# Altium footprint library QFPxx.PcbLib: 5 footprints (part 1 of 3)
Each footprint in its own frame and in the unit in brackets; x right, y up, seen from the top. Pads: shape width x height; smd on the part's side, far side on the other; paste and mask are expansions set on the pad; w line width, h text height; cw(c..) or ccw(c..) is an arc to the next point about the centre after c.
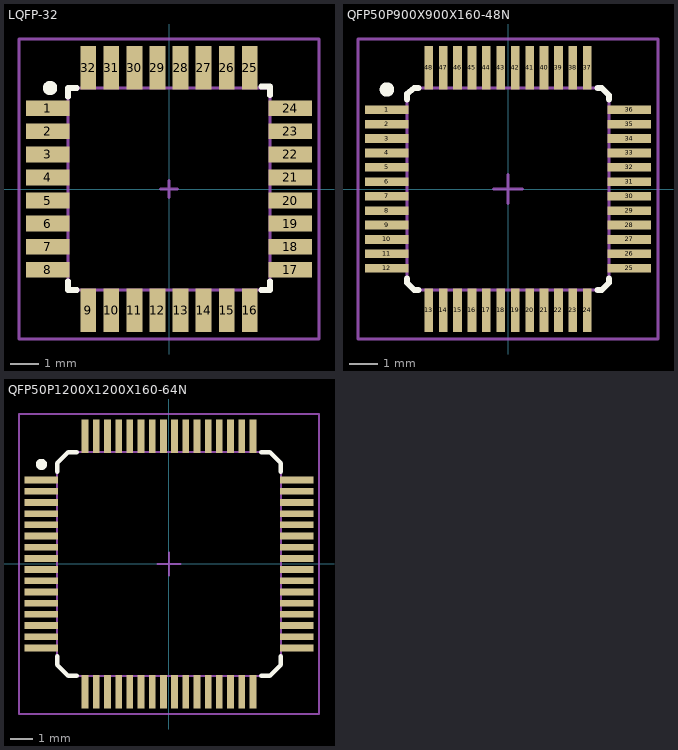
[diagram p0: the footprints below, top view; thin cyan lines are the x and y axes]

## LQFP-32 [mm] "Body 7x7mm, Pitch 0.80mm"
height 1.6
pads (32):
  rect 1.5x0.55 smd: 1(-4.2,2.8) 2(-4.2,2) 3(-4.2,1.2) 4(-4.2,0.4) 5(-4.2,-0.4) 6(-4.2,-1.2) 7(-4.2,-2) 8(-4.2,-2.8) 17(4.2,-2.8) 18(4.2,-2) 19(4.2,-1.2) 20(4.2,-0.4) 21(4.2,0.4) 22(4.2,1.2) 23(4.2,2) 24(4.2,2.8)
  rect 0.55x1.5 smd: 9(-2.8,-4.2) 10(-2,-4.2) 11(-1.2,-4.2) 12(-0.4,-4.2) 13(0.4,-4.2) 14(1.2,-4.2) 15(2,-4.2) 16(2.8,-4.2) 25(2.8,4.2) 26(2,4.2) 27(1.2,4.2) 28(0.4,4.2) 29(-0.4,4.2) 30(-1.2,4.2) 31(-2,4.2) 32(-2.8,4.2)
Top Overlay:
  circle w0.25: c-4.125,3.5 r0.125
  lines w0.2: -3.5,-3.2 -3.5,-3.5 -3.2,-3.5 ; -3.5,3.2 -3.5,3.5 -3.2,3.5 ; 3.2,-3.5 3.5,-3.5 3.5,-3.2 ; 3.2,3.55 3.5,3.55 3.5,3.25
Mechanical 13:
  lines w0.1: -3.5,-3.5 -3.5,3.5 3.5,3.5 3.5,-3.5 -3.5,-3.5
Mechanical 15:
  lines w0.1: -0.3,0 0.3,0 ; 0,-0.3 0,0.3 ; -5.2,-5.2 5.2,-5.2 5.2,5.2 -5.2,5.2 -5.2,-5.2
3D body: height 1.61, standoff 1.6, extent -3.099,2.5 -2.501,3.099
3D body: height 0.2, standoff 0, extent -4.5,0.2 -3.8,0.6
3D body: height 1.6, standoff 0.1, extent -3.5,-3.5 3.5,3.5
3D body: height 0.9, standoff 0.7, extent -3.8,0.2 -3.5,0.6
3D body: height 0.9, standoff 0, extent -3.8,0.2 -3.7,0.6
3D body: height 0.9, standoff 0, extent -3.8,1 -3.7,1.4
3D body: height 0.9, standoff 0.7, extent -3.8,1 -3.5,1.4
3D body: height 0.2, standoff 0, extent -4.5,1 -3.8,1.4
3D body: height 0.9, standoff 0, extent -3.8,1.8 -3.7,2.2
3D body: height 0.9, standoff 0.7, extent -3.8,1.8 -3.5,2.2
3D body: height 0.2, standoff 0, extent -4.5,1.8 -3.8,2.2
3D body: height 0.9, standoff 0, extent -3.8,2.6 -3.7,3
3D body: height 0.9, standoff 0.7, extent -3.8,2.6 -3.5,3
3D body: height 0.2, standoff 0, extent -4.5,2.6 -3.8,3
3D body: height 0.9, standoff 0, extent -3.8,-0.6 -3.7,-0.2
3D body: height 0.9, standoff 0.7, extent -3.8,-0.6 -3.5,-0.2
3D body: height 0.2, standoff 0, extent -4.5,-0.6 -3.8,-0.2
3D body: height 0.9, standoff 0, extent -3.8,-1.4 -3.7,-1
3D body: height 0.9, standoff 0.7, extent -3.8,-1.4 -3.5,-1
3D body: height 0.2, standoff 0, extent -4.5,-1.4 -3.8,-1
3D body: height 0.9, standoff 0, extent -3.8,-2.2 -3.7,-1.8
3D body: height 0.9, standoff 0.7, extent -3.8,-2.2 -3.5,-1.8
3D body: height 0.2, standoff 0, extent -4.5,-2.2 -3.8,-1.8
3D body: height 0.9, standoff 0, extent -3.8,-3 -3.7,-2.6
3D body: height 0.9, standoff 0.7, extent -3.8,-3 -3.5,-2.6
3D body: height 0.2, standoff 0, extent -4.5,-3 -3.8,-2.6
3D body: height 0.2, standoff 0, extent 2.6,-4.5 3,-3.8
3D body: height 0.9, standoff 0.7, extent 2.6,-3.8 3,-3.5
3D body: height 0.9, standoff 0, extent 2.6,-3.8 3,-3.7
3D body: height 0.2, standoff 0, extent 1.8,-4.5 2.2,-3.8
3D body: height 0.9, standoff 0.7, extent 1.8,-3.8 2.2,-3.5
3D body: height 0.9, standoff 0, extent 1.8,-3.8 2.2,-3.7
3D body: height 0.2, standoff 0, extent 1,-4.5 1.4,-3.8
3D body: height 0.9, standoff 0.7, extent 1,-3.8 1.4,-3.5
3D body: height 0.9, standoff 0, extent 1,-3.8 1.4,-3.7
3D body: height 0.2, standoff 0, extent 0.2,-4.5 0.6,-3.8
3D body: height 0.9, standoff 0.7, extent 0.2,-3.8 0.6,-3.5
3D body: height 0.9, standoff 0, extent 0.2,-3.8 0.6,-3.7
3D body: height 0.2, standoff 0, extent -3,-4.5 -2.6,-3.8
3D body: height 0.9, standoff 0.7, extent -3,-3.8 -2.6,-3.5
3D body: height 0.9, standoff 0, extent -3,-3.8 -2.6,-3.7
3D body: height 0.2, standoff 0, extent -2.2,-4.5 -1.8,-3.8
3D body: height 0.9, standoff 0.7, extent -2.2,-3.8 -1.8,-3.5
3D body: height 0.9, standoff 0, extent -2.2,-3.8 -1.8,-3.7
3D body: height 0.2, standoff 0, extent -1.4,-4.5 -1,-3.8
3D body: height 0.9, standoff 0.7, extent -1.4,-3.8 -1,-3.5
3D body: height 0.9, standoff 0, extent -1.4,-3.8 -1,-3.7
3D body: height 0.9, standoff 0, extent -0.6,-3.8 -0.2,-3.7
3D body: height 0.9, standoff 0.7, extent -0.6,-3.8 -0.2,-3.5
3D body: height 0.2, standoff 0, extent -0.6,-4.5 -0.2,-3.8
3D body: height 0.2, standoff 0, extent 3.8,2.6 4.5,3
3D body: height 0.9, standoff 0.7, extent 3.5,2.6 3.8,3
3D body: height 0.9, standoff 0, extent 3.7,2.6 3.8,3
3D body: height 0.2, standoff 0, extent 3.8,1.8 4.5,2.2
3D body: height 0.9, standoff 0.7, extent 3.5,1.8 3.8,2.2
3D body: height 0.9, standoff 0, extent 3.7,1.8 3.8,2.2
3D body: height 0.2, standoff 0, extent 3.8,1 4.5,1.4
3D body: height 0.9, standoff 0.7, extent 3.5,1 3.8,1.4
3D body: height 0.9, standoff 0, extent 3.7,1 3.8,1.4
3D body: height 0.2, standoff 0, extent 3.8,0.2 4.5,0.6
3D body: height 0.9, standoff 0.7, extent 3.5,0.2 3.8,0.6
3D body: height 0.9, standoff 0, extent 3.7,0.2 3.8,0.6
3D body: height 0.2, standoff 0, extent 3.8,-3 4.5,-2.6
3D body: height 0.9, standoff 0.7, extent 3.5,-3 3.8,-2.6
3D body: height 0.9, standoff 0, extent 3.7,-3 3.8,-2.6
3D body: height 0.2, standoff 0, extent 3.8,-2.2 4.5,-1.8
3D body: height 0.9, standoff 0.7, extent 3.5,-2.2 3.8,-1.8
3D body: height 0.9, standoff 0, extent 3.7,-2.2 3.8,-1.8
3D body: height 0.2, standoff 0, extent 3.8,-1.4 4.5,-1
3D body: height 0.9, standoff 0.7, extent 3.5,-1.4 3.8,-1
3D body: height 0.9, standoff 0, extent 3.7,-1.4 3.8,-1
3D body: height 0.9, standoff 0, extent 3.7,-0.6 3.8,-0.2
3D body: height 0.9, standoff 0.7, extent 3.5,-0.6 3.8,-0.2
3D body: height 0.2, standoff 0, extent 3.8,-0.6 4.5,-0.2
3D body: height 0.2, standoff 0, extent -3,3.8 -2.6,4.5
3D body: height 0.9, standoff 0.7, extent -3,3.5 -2.6,3.8
3D body: height 0.9, standoff 0, extent -3,3.7 -2.6,3.8
3D body: height 0.2, standoff 0, extent -2.2,3.8 -1.8,4.5
3D body: height 0.9, standoff 0.7, extent -2.2,3.5 -1.8,3.8
3D body: height 0.9, standoff 0, extent -2.2,3.7 -1.8,3.8
3D body: height 0.2, standoff 0, extent -1.4,3.8 -1,4.5
3D body: height 0.9, standoff 0.7, extent -1.4,3.5 -1,3.8
3D body: height 0.9, standoff 0, extent -1.4,3.7 -1,3.8
3D body: height 0.2, standoff 0, extent -0.6,3.8 -0.2,4.5
3D body: height 0.9, standoff 0.7, extent -0.6,3.5 -0.2,3.8
3D body: height 0.9, standoff 0, extent -0.6,3.7 -0.2,3.8
3D body: height 0.2, standoff 0, extent 2.6,3.8 3,4.5
3D body: height 0.9, standoff 0.7, extent 2.6,3.5 3,3.8
3D body: height 0.9, standoff 0, extent 2.6,3.7 3,3.8
3D body: height 0.2, standoff 0, extent 1.8,3.8 2.2,4.5
3D body: height 0.9, standoff 0.7, extent 1.8,3.5 2.2,3.8
3D body: height 0.9, standoff 0, extent 1.8,3.7 2.2,3.8
3D body: height 0.2, standoff 0, extent 1,3.8 1.4,4.5
3D body: height 0.9, standoff 0.7, extent 1,3.5 1.4,3.8
3D body: height 0.9, standoff 0, extent 1,3.7 1.4,3.8
3D body: height 0.9, standoff 0, extent 0.2,3.7 0.6,3.8
3D body: height 0.9, standoff 0.7, extent 0.2,3.5 0.6,3.8
3D body: height 0.2, standoff 0, extent 0.2,3.8 0.6,4.5

## QFP50P900X900X160-48N [mm] "LQFP, 48-Leads, Body 7x7mm, Pitch 0.50mm"
height 1.6
pads (48):
  rect 1.5x0.3 smd: 1(-4.2,2.75) 2(-4.2,2.25) 3(-4.2,1.75) 4(-4.2,1.25) 5(-4.2,0.75) 6(-4.2,0.25) 7(-4.2,-0.25) 8(-4.2,-0.75) 9(-4.2,-1.25) 10(-4.2,-1.75) 11(-4.2,-2.25) 12(-4.2,-2.75) 25(4.2,-2.75) 26(4.2,-2.25) 27(4.2,-1.75) 28(4.2,-1.25) 29(4.2,-0.75) 30(4.2,-0.25) 31(4.2,0.25) 32(4.2,0.75) 33(4.2,1.25) 34(4.2,1.75) 35(4.2,2.25) 36(4.2,2.75)
  rect 0.3x1.5 smd: 13(-2.75,-4.2) 14(-2.25,-4.2) 15(-1.75,-4.2) 16(-1.25,-4.2) 17(-0.75,-4.2) 18(-0.25,-4.2) 19(0.25,-4.2) 20(0.75,-4.2) 21(1.25,-4.2) 22(1.75,-4.2) 23(2.25,-4.2) 24(2.75,-4.2) 37(2.75,4.2) 38(2.25,4.2) 39(1.75,4.2) 40(1.25,4.2) 41(0.75,4.2) 42(0.25,4.2) 43(-0.25,4.2) 44(-0.75,4.2) 45(-1.25,4.2) 46(-1.75,4.2) 47(-2.25,4.2) 48(-2.75,4.2)
Top Overlay:
  circle w0.25: c-4.2,3.45 r0.125
  lines w0.2: -3.5,-3.1 -3.5,-3.25 -3.25,-3.5 -3.1,-3.5 ; -3.5,3.1 -3.5,3.3 -3.25,3.5 -3.1,3.5 ; 3.1,-3.5 3.25,-3.5 3.5,-3.25 3.5,-3.1 ; 3.1,3.5 3.25,3.5 3.5,3.25 3.5,3.1
Mechanical 13:
  lines w0.1: -3.5,-3.25 -3.25,-3.5 3.25,-3.5 3.5,-3.25 3.5,3.25 3.25,3.5 -3.25,3.5 -3.5,3.25 -3.5,-3.25
Mechanical 15:
  lines w0.1: -0.5,0 0.5,0 ; 0,-0.5 0,0.5 ; -5.2,-5.2 5.2,-5.2 5.2,5.2 -5.2,5.2 -5.2,-5.2
3D body: height 0.9, standoff 0, extent -3.8,2.625 -3.7,2.875
3D body: height 0.9, standoff 0.7, extent -3.8,2.625 -3.5,2.875
3D body: height 0.2, standoff 0, extent -4.5,2.625 -3.8,2.875
3D body: height 1.61, standoff 1.6, extent -2.897,2.301 -2.3,2.9
3D body: height 1.6, standoff 0.05, extent -3.5,-3.5 3.5,3.5
3D body: height 0.2, standoff 0, extent -4.5,2.125 -3.8,2.375
3D body: height 0.9, standoff 0.7, extent -3.8,2.125 -3.5,2.375
3D body: height 0.9, standoff 0, extent -3.8,2.125 -3.7,2.375
3D body: height 0.2, standoff 0, extent -4.5,1.625 -3.8,1.875
3D body: height 0.9, standoff 0.7, extent -3.8,1.625 -3.5,1.875
3D body: height 0.9, standoff 0, extent -3.8,1.625 -3.7,1.875
3D body: height 0.2, standoff 0, extent -4.5,1.125 -3.8,1.375
3D body: height 0.9, standoff 0.7, extent -3.8,1.125 -3.5,1.375
3D body: height 0.9, standoff 0, extent -3.8,1.125 -3.7,1.375
3D body: height 0.2, standoff 0, extent -4.5,0.625 -3.8,0.875
3D body: height 0.9, standoff 0.7, extent -3.8,0.625 -3.5,0.875
3D body: height 0.9, standoff 0, extent -3.8,0.625 -3.7,0.875
3D body: height 0.2, standoff 0, extent -4.5,0.125 -3.8,0.375
3D body: height 0.9, standoff 0.7, extent -3.8,0.125 -3.5,0.375
3D body: height 0.9, standoff 0, extent -3.8,0.125 -3.7,0.375
3D body: height 0.2, standoff 0, extent -4.5,-0.375 -3.8,-0.125
3D body: height 0.9, standoff 0.7, extent -3.8,-0.375 -3.5,-0.125
3D body: height 0.9, standoff 0, extent -3.8,-0.375 -3.7,-0.125
3D body: height 0.2, standoff 0, extent -4.5,-0.875 -3.8,-0.625
3D body: height 0.9, standoff 0.7, extent -3.8,-0.875 -3.5,-0.625
3D body: height 0.9, standoff 0, extent -3.8,-0.875 -3.7,-0.625
3D body: height 0.2, standoff 0, extent -4.5,-1.375 -3.8,-1.125
3D body: height 0.9, standoff 0.7, extent -3.8,-1.375 -3.5,-1.125
3D body: height 0.9, standoff 0, extent -3.8,-1.375 -3.7,-1.125
3D body: height 0.2, standoff 0, extent -4.5,-1.875 -3.8,-1.625
3D body: height 0.9, standoff 0.7, extent -3.8,-1.875 -3.5,-1.625
3D body: height 0.9, standoff 0, extent -3.8,-1.875 -3.7,-1.625
3D body: height 0.2, standoff 0, extent -4.5,-2.375 -3.8,-2.125
3D body: height 0.9, standoff 0.7, extent -3.8,-2.375 -3.5,-2.125
3D body: height 0.9, standoff 0, extent -3.8,-2.375 -3.7,-2.125
3D body: height 0.2, standoff 0, extent -4.5,-2.875 -3.8,-2.625
3D body: height 0.9, standoff 0.7, extent -3.8,-2.875 -3.5,-2.625
3D body: height 0.9, standoff 0, extent -3.8,-2.875 -3.7,-2.625
3D body: height 0.9, standoff 0, extent 2.625,-3.8 2.875,-3.7
3D body: height 0.9, standoff 0.7, extent 2.625,-3.8 2.875,-3.5
3D body: height 0.2, standoff 0, extent 2.625,-4.5 2.875,-3.8
3D body: height 0.9, standoff 0, extent 2.125,-3.8 2.375,-3.7
3D body: height 0.9, standoff 0.7, extent 2.125,-3.8 2.375,-3.5
3D body: height 0.2, standoff 0, extent 2.125,-4.5 2.375,-3.8
3D body: height 0.9, standoff 0, extent 1.625,-3.8 1.875,-3.7
3D body: height 0.9, standoff 0.7, extent 1.625,-3.8 1.875,-3.5
3D body: height 0.2, standoff 0, extent 1.625,-4.5 1.875,-3.8
3D body: height 0.9, standoff 0, extent 1.125,-3.8 1.375,-3.7
3D body: height 0.9, standoff 0.7, extent 1.125,-3.8 1.375,-3.5
3D body: height 0.2, standoff 0, extent 1.125,-4.5 1.375,-3.8
3D body: height 0.9, standoff 0, extent 0.625,-3.8 0.875,-3.7
3D body: height 0.9, standoff 0.7, extent 0.625,-3.8 0.875,-3.5
3D body: height 0.2, standoff 0, extent 0.625,-4.5 0.875,-3.8
3D body: height 0.9, standoff 0, extent 0.125,-3.8 0.375,-3.7
3D body: height 0.9, standoff 0.7, extent 0.125,-3.8 0.375,-3.5
3D body: height 0.2, standoff 0, extent 0.125,-4.5 0.375,-3.8
3D body: height 0.9, standoff 0, extent -0.375,-3.8 -0.125,-3.7
3D body: height 0.9, standoff 0.7, extent -0.375,-3.8 -0.125,-3.5
3D body: height 0.2, standoff 0, extent -0.375,-4.5 -0.125,-3.8
3D body: height 0.9, standoff 0, extent -0.875,-3.8 -0.625,-3.7
3D body: height 0.9, standoff 0.7, extent -0.875,-3.8 -0.625,-3.5
3D body: height 0.2, standoff 0, extent -0.875,-4.5 -0.625,-3.8
3D body: height 0.9, standoff 0, extent -1.375,-3.8 -1.125,-3.7
3D body: height 0.9, standoff 0.7, extent -1.375,-3.8 -1.125,-3.5
3D body: height 0.2, standoff 0, extent -1.375,-4.5 -1.125,-3.8
3D body: height 0.9, standoff 0, extent -1.875,-3.8 -1.625,-3.7
3D body: height 0.9, standoff 0.7, extent -1.875,-3.8 -1.625,-3.5
3D body: height 0.2, standoff 0, extent -1.875,-4.5 -1.625,-3.8
3D body: height 0.9, standoff 0, extent -2.375,-3.8 -2.125,-3.7
3D body: height 0.9, standoff 0.7, extent -2.375,-3.8 -2.125,-3.5
3D body: height 0.2, standoff 0, extent -2.375,-4.5 -2.125,-3.8
3D body: height 0.2, standoff 0, extent -2.875,-4.5 -2.625,-3.8
3D body: height 0.9, standoff 0.7, extent -2.875,-3.8 -2.625,-3.5
3D body: height 0.9, standoff 0, extent -2.875,-3.8 -2.625,-3.7
3D body: height 0.9, standoff 0, extent 3.7,2.625 3.8,2.875
3D body: height 0.9, standoff 0.7, extent 3.5,2.625 3.8,2.875
3D body: height 0.2, standoff 0, extent 3.8,2.625 4.5,2.875
3D body: height 0.9, standoff 0, extent 3.7,2.125 3.8,2.375
3D body: height 0.9, standoff 0.7, extent 3.5,2.125 3.8,2.375
3D body: height 0.2, standoff 0, extent 3.8,2.125 4.5,2.375
3D body: height 0.9, standoff 0, extent 3.7,1.625 3.8,1.875
3D body: height 0.9, standoff 0.7, extent 3.5,1.625 3.8,1.875
3D body: height 0.2, standoff 0, extent 3.8,1.625 4.5,1.875
3D body: height 0.9, standoff 0, extent 3.7,1.125 3.8,1.375
3D body: height 0.9, standoff 0.7, extent 3.5,1.125 3.8,1.375
3D body: height 0.2, standoff 0, extent 3.8,1.125 4.5,1.375
3D body: height 0.9, standoff 0, extent 3.7,0.625 3.8,0.875
3D body: height 0.9, standoff 0.7, extent 3.5,0.625 3.8,0.875
3D body: height 0.2, standoff 0, extent 3.8,0.625 4.5,0.875
3D body: height 0.9, standoff 0, extent 3.7,0.125 3.8,0.375
3D body: height 0.9, standoff 0.7, extent 3.5,0.125 3.8,0.375
3D body: height 0.2, standoff 0, extent 3.8,0.125 4.5,0.375
3D body: height 0.9, standoff 0, extent 3.7,-0.375 3.8,-0.125
3D body: height 0.9, standoff 0.7, extent 3.5,-0.375 3.8,-0.125
3D body: height 0.2, standoff 0, extent 3.8,-0.375 4.5,-0.125
3D body: height 0.9, standoff 0, extent 3.7,-0.875 3.8,-0.625
3D body: height 0.9, standoff 0.7, extent 3.5,-0.875 3.8,-0.625
3D body: height 0.2, standoff 0, extent 3.8,-0.875 4.5,-0.625
3D body: height 0.9, standoff 0, extent 3.7,-1.375 3.8,-1.125
3D body: height 0.9, standoff 0.7, extent 3.5,-1.375 3.8,-1.125
3D body: height 0.2, standoff 0, extent 3.8,-1.375 4.5,-1.125
3D body: height 0.9, standoff 0, extent 3.7,-1.875 3.8,-1.625
3D body: height 0.9, standoff 0.7, extent 3.5,-1.875 3.8,-1.625
3D body: height 0.2, standoff 0, extent 3.8,-1.875 4.5,-1.625
3D body: height 0.9, standoff 0, extent 3.7,-2.375 3.8,-2.125
3D body: height 0.9, standoff 0.7, extent 3.5,-2.375 3.8,-2.125
3D body: height 0.2, standoff 0, extent 3.8,-2.375 4.5,-2.125
3D body: height 0.2, standoff 0, extent 3.8,-2.875 4.5,-2.625
3D body: height 0.9, standoff 0.7, extent 3.5,-2.875 3.8,-2.625
3D body: height 0.9, standoff 0, extent 3.7,-2.875 3.8,-2.625
3D body: height 0.9, standoff 0, extent -2.875,3.7 -2.625,3.8
3D body: height 0.9, standoff 0.7, extent -2.875,3.5 -2.625,3.8
3D body: height 0.2, standoff 0, extent -2.875,3.8 -2.625,4.5
3D body: height 0.9, standoff 0, extent -2.375,3.7 -2.125,3.8
3D body: height 0.9, standoff 0.7, extent -2.375,3.5 -2.125,3.8
3D body: height 0.2, standoff 0, extent -2.375,3.8 -2.125,4.5
3D body: height 0.9, standoff 0, extent -1.875,3.7 -1.625,3.8
3D body: height 0.9, standoff 0.7, extent -1.875,3.5 -1.625,3.8
3D body: height 0.2, standoff 0, extent -1.875,3.8 -1.625,4.5
3D body: height 0.9, standoff 0, extent -1.375,3.7 -1.125,3.8
3D body: height 0.9, standoff 0.7, extent -1.375,3.5 -1.125,3.8
3D body: height 0.2, standoff 0, extent -1.375,3.8 -1.125,4.5
3D body: height 0.9, standoff 0, extent -0.875,3.7 -0.625,3.8
3D body: height 0.9, standoff 0.7, extent -0.875,3.5 -0.625,3.8
3D body: height 0.2, standoff 0, extent -0.875,3.8 -0.625,4.5
3D body: height 0.9, standoff 0, extent -0.375,3.7 -0.125,3.8
3D body: height 0.9, standoff 0.7, extent -0.375,3.5 -0.125,3.8
3D body: height 0.2, standoff 0, extent -0.375,3.8 -0.125,4.5
3D body: height 0.9, standoff 0, extent 0.125,3.7 0.375,3.8
3D body: height 0.9, standoff 0.7, extent 0.125,3.5 0.375,3.8
3D body: height 0.2, standoff 0, extent 0.125,3.8 0.375,4.5
3D body: height 0.9, standoff 0, extent 0.625,3.7 0.875,3.8
3D body: height 0.9, standoff 0.7, extent 0.625,3.5 0.875,3.8
3D body: height 0.2, standoff 0, extent 0.625,3.8 0.875,4.5
3D body: height 0.9, standoff 0, extent 1.125,3.7 1.375,3.8
3D body: height 0.9, standoff 0.7, extent 1.125,3.5 1.375,3.8
3D body: height 0.2, standoff 0, extent 1.125,3.8 1.375,4.5
3D body: height 0.9, standoff 0, extent 1.625,3.7 1.875,3.8
3D body: height 0.9, standoff 0.7, extent 1.625,3.5 1.875,3.8
3D body: height 0.2, standoff 0, extent 1.625,3.8 1.875,4.5
3D body: height 0.9, standoff 0, extent 2.125,3.7 2.375,3.8
3D body: height 0.9, standoff 0.7, extent 2.125,3.5 2.375,3.8
3D body: height 0.2, standoff 0, extent 2.125,3.8 2.375,4.5
3D body: height 0.2, standoff 0, extent 2.625,3.8 2.875,4.5
3D body: height 0.9, standoff 0.7, extent 2.625,3.5 2.875,3.8
3D body: height 0.9, standoff 0, extent 2.625,3.7 2.875,3.8

## QFP50P1200X1200X160-64N [mm] "QFP, 64-Leads, Body 12x12mm, Pitch 0.50mm"
height 1.6
pads (64):
  rect 1.5x0.3 smd: 1(-5.7,3.75) 2(-5.7,3.25) 3(-5.7,2.75) 4(-5.7,2.25) 5(-5.7,1.75) 6(-5.7,1.25) 7(-5.7,0.75) 8(-5.7,0.25) 9(-5.7,-0.25) 10(-5.7,-0.75) 11(-5.7,-1.25) 12(-5.7,-1.75) 13(-5.7,-2.25) 14(-5.7,-2.75) 15(-5.7,-3.25) 16(-5.7,-3.75) 33(5.7,-3.75) 34(5.7,-3.25) 35(5.7,-2.75) 36(5.7,-2.25) 37(5.7,-1.75) 38(5.7,-1.25) 39(5.7,-0.75) 40(5.7,-0.25) 41(5.7,0.25) 42(5.7,0.75) 43(5.7,1.25) 44(5.7,1.75) 45(5.7,2.25) 46(5.7,2.75) 47(5.7,3.25) 48(5.7,3.75)
  rect 0.3x1.5 smd: 17(-3.75,-5.7) 18(-3.25,-5.7) 19(-2.75,-5.7) 20(-2.25,-5.7) 21(-1.75,-5.7) 22(-1.25,-5.7) 23(-0.75,-5.7) 24(-0.25,-5.7) 25(0.25,-5.7) 26(0.75,-5.7) 27(1.25,-5.7) 28(1.75,-5.7) 29(2.25,-5.7) 30(2.75,-5.7) 31(3.25,-5.7) 32(3.75,-5.7) 49(3.75,5.7) 50(3.25,5.7) 51(2.75,5.7) 52(2.25,5.7) 53(1.75,5.7) 54(1.25,5.7) 55(0.75,5.7) 56(0.25,5.7) 57(-0.25,5.7) 58(-0.75,5.7) 59(-1.25,5.7) 60(-1.75,5.7) 61(-2.25,5.7) 62(-2.75,5.7) 63(-3.25,5.7) 64(-3.75,5.7)
Top Overlay:
  circle w0.25: c-5.7,4.45 r0.125
  lines w0.2: -5,-4.125 -5,-4.5 -4.5,-5 -4.125,-5 ; -5,4.125 -5,4.5 -4.5,5 -4.125,5 ; 4.125,-5 4.5,-5 5,-4.5 5,-4.125 ; 4.125,5 4.5,5 5,4.5 5,4.125
Mechanical 13:
  lines w0.1: -5,-4.5 -4.5,-5 4.5,-5 5,-4.5 5,4.5 4.5,5 -4.5,5 -5,4.5 -5,-4.5
Mechanical 15:
  lines w0.1: -0.5,0 0.5,0 ; 0,-0.5 0,0.5 ; -6.7,-6.7 6.7,-6.7 6.7,6.7 -6.7,6.7 -6.7,-6.7
3D body: height 1.61, standoff 1.6, extent -4.297,3.701 -3.7,4.3
3D body: height 1.6, standoff 0.05, extent -5,-5 5,5
3D body: height 0.9, standoff 0, extent -5.3,-1.875 -5.2,-1.625
3D body: height 0.9, standoff 0.7, extent -5.3,-1.875 -5,-1.625
3D body: height 0.2, standoff 0, extent -6,-1.875 -5.3,-1.625
3D body: height 0.9, standoff 0, extent -5.3,-1.375 -5.2,-1.125
3D body: height 0.9, standoff 0.7, extent -5.3,-1.375 -5,-1.125
3D body: height 0.2, standoff 0, extent -6,-1.375 -5.3,-1.125
3D body: height 0.9, standoff 0, extent -5.3,-0.875 -5.2,-0.625
3D body: height 0.9, standoff 0.7, extent -5.3,-0.875 -5,-0.625
3D body: height 0.2, standoff 0, extent -6,-0.875 -5.3,-0.625
3D body: height 0.9, standoff 0, extent -5.3,-0.375 -5.2,-0.125
3D body: height 0.9, standoff 0.7, extent -5.3,-0.375 -5,-0.125
3D body: height 0.2, standoff 0, extent -6,-0.375 -5.3,-0.125
3D body: height 0.9, standoff 0, extent -5.3,0.125 -5.2,0.375
3D body: height 0.9, standoff 0.7, extent -5.3,0.125 -5,0.375
3D body: height 0.2, standoff 0, extent -6,0.125 -5.3,0.375
3D body: height 0.9, standoff 0, extent -5.3,0.625 -5.2,0.875
3D body: height 0.9, standoff 0.7, extent -5.3,0.625 -5,0.875
3D body: height 0.2, standoff 0, extent -6,0.625 -5.3,0.875
3D body: height 0.9, standoff 0, extent -5.3,1.125 -5.2,1.375
3D body: height 0.9, standoff 0.7, extent -5.3,1.125 -5,1.375
3D body: height 0.2, standoff 0, extent -6,1.125 -5.3,1.375
3D body: height 0.9, standoff 0, extent -5.3,1.625 -5.2,1.875
3D body: height 0.9, standoff 0.7, extent -5.3,1.625 -5,1.875
3D body: height 0.2, standoff 0, extent -6,1.625 -5.3,1.875
3D body: height 0.9, standoff 0, extent -5.3,2.125 -5.2,2.375
3D body: height 0.9, standoff 0.7, extent -5.3,2.125 -5,2.375
3D body: height 0.2, standoff 0, extent -6,2.125 -5.3,2.375
3D body: height 0.9, standoff 0, extent -5.3,2.625 -5.2,2.875
3D body: height 0.9, standoff 0.7, extent -5.3,2.625 -5,2.875
3D body: height 0.2, standoff 0, extent -6,2.625 -5.3,2.875
3D body: height 0.9, standoff 0, extent -5.3,3.125 -5.2,3.375
3D body: height 0.9, standoff 0.7, extent -5.3,3.125 -5,3.375
3D body: height 0.2, standoff 0, extent -6,3.125 -5.3,3.375
3D body: height 0.2, standoff 0, extent -6,3.625 -5.3,3.875
3D body: height 0.9, standoff 0.7, extent -5.3,3.625 -5,3.875
3D body: height 0.9, standoff 0, extent -5.3,3.625 -5.2,3.875
3D body: height 0.2, standoff 0, extent -6,-2.375 -5.3,-2.125
3D body: height 0.9, standoff 0.7, extent -5.3,-2.375 -5,-2.125
3D body: height 0.9, standoff 0, extent -5.3,-2.375 -5.2,-2.125
3D body: height 0.2, standoff 0, extent -6,-2.875 -5.3,-2.625
3D body: height 0.9, standoff 0.7, extent -5.3,-2.875 -5,-2.625
3D body: height 0.9, standoff 0, extent -5.3,-2.875 -5.2,-2.625
3D body: height 0.2, standoff 0, extent -6,-3.375 -5.3,-3.125
3D body: height 0.9, standoff 0.7, extent -5.3,-3.375 -5,-3.125
3D body: height 0.9, standoff 0, extent -5.3,-3.375 -5.2,-3.125
3D body: height 0.2, standoff 0, extent -6,-3.875 -5.3,-3.625
3D body: height 0.9, standoff 0.7, extent -5.3,-3.875 -5,-3.625
3D body: height 0.9, standoff 0, extent -5.3,-3.875 -5.2,-3.625
3D body: height 0.9, standoff 0, extent 5.2,3.625 5.3,3.875
3D body: height 0.9, standoff 0.7, extent 5,3.625 5.3,3.875
3D body: height 0.2, standoff 0, extent 5.3,3.625 6,3.875
3D body: height 0.9, standoff 0, extent 5.2,3.125 5.3,3.375
3D body: height 0.9, standoff 0.7, extent 5,3.125 5.3,3.375
3D body: height 0.2, standoff 0, extent 5.3,3.125 6,3.375
3D body: height 0.9, standoff 0, extent 5.2,2.625 5.3,2.875
3D body: height 0.9, standoff 0.7, extent 5,2.625 5.3,2.875
3D body: height 0.2, standoff 0, extent 5.3,2.625 6,2.875
3D body: height 0.9, standoff 0, extent 5.2,2.125 5.3,2.375
3D body: height 0.9, standoff 0.7, extent 5,2.125 5.3,2.375
3D body: height 0.2, standoff 0, extent 5.3,2.125 6,2.375
3D body: height 0.9, standoff 0, extent 5.2,-3.875 5.3,-3.625
3D body: height 0.9, standoff 0.7, extent 5,-3.875 5.3,-3.625
3D body: height 0.2, standoff 0, extent 5.3,-3.875 6,-3.625
3D body: height 0.2, standoff 0, extent 5.3,-3.375 6,-3.125
3D body: height 0.9, standoff 0.7, extent 5,-3.375 5.3,-3.125
3D body: height 0.9, standoff 0, extent 5.2,-3.375 5.3,-3.125
3D body: height 0.2, standoff 0, extent 5.3,-2.875 6,-2.625
3D body: height 0.9, standoff 0.7, extent 5,-2.875 5.3,-2.625
3D body: height 0.9, standoff 0, extent 5.2,-2.875 5.3,-2.625
3D body: height 0.2, standoff 0, extent 5.3,-2.375 6,-2.125
3D body: height 0.9, standoff 0.7, extent 5,-2.375 5.3,-2.125
3D body: height 0.9, standoff 0, extent 5.2,-2.375 5.3,-2.125
3D body: height 0.2, standoff 0, extent 5.3,-1.875 6,-1.625
3D body: height 0.9, standoff 0.7, extent 5,-1.875 5.3,-1.625
3D body: height 0.9, standoff 0, extent 5.2,-1.875 5.3,-1.625
3D body: height 0.2, standoff 0, extent 5.3,-1.375 6,-1.125
3D body: height 0.9, standoff 0.7, extent 5,-1.375 5.3,-1.125
3D body: height 0.9, standoff 0, extent 5.2,-1.375 5.3,-1.125
3D body: height 0.2, standoff 0, extent 5.3,-0.875 6,-0.625
3D body: height 0.9, standoff 0.7, extent 5,-0.875 5.3,-0.625
3D body: height 0.9, standoff 0, extent 5.2,-0.875 5.3,-0.625
3D body: height 0.2, standoff 0, extent 5.3,-0.375 6,-0.125
3D body: height 0.9, standoff 0.7, extent 5,-0.375 5.3,-0.125
3D body: height 0.9, standoff 0, extent 5.2,-0.375 5.3,-0.125
3D body: height 0.2, standoff 0, extent 5.3,0.125 6,0.375
3D body: height 0.9, standoff 0.7, extent 5,0.125 5.3,0.375
3D body: height 0.9, standoff 0, extent 5.2,0.125 5.3,0.375
3D body: height 0.2, standoff 0, extent 5.3,0.625 6,0.875
3D body: height 0.9, standoff 0.7, extent 5,0.625 5.3,0.875
3D body: height 0.9, standoff 0, extent 5.2,0.625 5.3,0.875
3D body: height 0.2, standoff 0, extent 5.3,1.125 6,1.375
3D body: height 0.9, standoff 0.7, extent 5,1.125 5.3,1.375
3D body: height 0.9, standoff 0, extent 5.2,1.125 5.3,1.375
3D body: height 0.2, standoff 0, extent 5.3,1.625 6,1.875
3D body: height 0.9, standoff 0.7, extent 5,1.625 5.3,1.875
3D body: height 0.9, standoff 0, extent 5.2,1.625 5.3,1.875
3D body: height 0.9, standoff 0, extent -3.875,5.2 -3.625,5.3
3D body: height 0.9, standoff 0.7, extent -3.875,5 -3.625,5.3
3D body: height 0.2, standoff 0, extent -3.875,5.3 -3.625,6
3D body: height 0.9, standoff 0, extent -3.375,5.2 -3.125,5.3
3D body: height 0.9, standoff 0.7, extent -3.375,5 -3.125,5.3
3D body: height 0.2, standoff 0, extent -3.375,5.3 -3.125,6
3D body: height 0.9, standoff 0, extent -2.875,5.2 -2.625,5.3
3D body: height 0.9, standoff 0.7, extent -2.875,5 -2.625,5.3
3D body: height 0.2, standoff 0, extent -2.875,5.3 -2.625,6
3D body: height 0.9, standoff 0, extent -2.375,5.2 -2.125,5.3
3D body: height 0.9, standoff 0.7, extent -2.375,5 -2.125,5.3
3D body: height 0.2, standoff 0, extent -2.375,5.3 -2.125,6
3D body: height 0.9, standoff 0, extent 3.625,5.2 3.875,5.3
3D body: height 0.9, standoff 0.7, extent 3.625,5 3.875,5.3
3D body: height 0.2, standoff 0, extent 3.625,5.3 3.875,6
3D body: height 0.2, standoff 0, extent 3.125,5.3 3.375,6
3D body: height 0.9, standoff 0.7, extent 3.125,5 3.375,5.3
3D body: height 0.9, standoff 0, extent 3.125,5.2 3.375,5.3
3D body: height 0.2, standoff 0, extent 2.625,5.3 2.875,6
3D body: height 0.9, standoff 0.7, extent 2.625,5 2.875,5.3
3D body: height 0.9, standoff 0, extent 2.625,5.2 2.875,5.3
3D body: height 0.2, standoff 0, extent 2.125,5.3 2.375,6
3D body: height 0.9, standoff 0.7, extent 2.125,5 2.375,5.3
3D body: height 0.9, standoff 0, extent 2.125,5.2 2.375,5.3
3D body: height 0.2, standoff 0, extent 1.625,5.3 1.875,6
3D body: height 0.9, standoff 0.7, extent 1.625,5 1.875,5.3
3D body: height 0.9, standoff 0, extent 1.625,5.2 1.875,5.3
3D body: height 0.2, standoff 0, extent 1.125,5.3 1.375,6
3D body: height 0.9, standoff 0.7, extent 1.125,5 1.375,5.3
3D body: height 0.9, standoff 0, extent 1.125,5.2 1.375,5.3
3D body: height 0.2, standoff 0, extent 0.625,5.3 0.875,6
3D body: height 0.9, standoff 0.7, extent 0.625,5 0.875,5.3
3D body: height 0.9, standoff 0, extent 0.625,5.2 0.875,5.3
3D body: height 0.2, standoff 0, extent 0.125,5.3 0.375,6
3D body: height 0.9, standoff 0.7, extent 0.125,5 0.375,5.3
3D body: height 0.9, standoff 0, extent 0.125,5.2 0.375,5.3
3D body: height 0.2, standoff 0, extent -0.375,5.3 -0.125,6
3D body: height 0.9, standoff 0.7, extent -0.375,5 -0.125,5.3
3D body: height 0.9, standoff 0, extent -0.375,5.2 -0.125,5.3
3D body: height 0.2, standoff 0, extent -0.875,5.3 -0.625,6
3D body: height 0.9, standoff 0.7, extent -0.875,5 -0.625,5.3
3D body: height 0.9, standoff 0, extent -0.875,5.2 -0.625,5.3
3D body: height 0.2, standoff 0, extent -1.375,5.3 -1.125,6
3D body: height 0.9, standoff 0.7, extent -1.375,5 -1.125,5.3
3D body: height 0.9, standoff 0, extent -1.375,5.2 -1.125,5.3
3D body: height 0.2, standoff 0, extent -1.875,5.3 -1.625,6
3D body: height 0.9, standoff 0.7, extent -1.875,5 -1.625,5.3
3D body: height 0.9, standoff 0, extent -1.875,5.2 -1.625,5.3
3D body: height 0.9, standoff 0, extent 3.625,-5.3 3.875,-5.2
3D body: height 0.9, standoff 0.7, extent 3.625,-5.3 3.875,-5
3D body: height 0.2, standoff 0, extent 3.625,-6 3.875,-5.3
3D body: height 0.9, standoff 0, extent 3.125,-5.3 3.375,-5.2
3D body: height 0.9, standoff 0.7, extent 3.125,-5.3 3.375,-5
3D body: height 0.2, standoff 0, extent 3.125,-6 3.375,-5.3
3D body: height 0.9, standoff 0, extent 2.625,-5.3 2.875,-5.2
3D body: height 0.9, standoff 0.7, extent 2.625,-5.3 2.875,-5
3D body: height 0.2, standoff 0, extent 2.625,-6 2.875,-5.3
3D body: height 0.9, standoff 0, extent 2.125,-5.3 2.375,-5.2
3D body: height 0.9, standoff 0.7, extent 2.125,-5.3 2.375,-5
3D body: height 0.2, standoff 0, extent 2.125,-6 2.375,-5.3
3D body: height 0.9, standoff 0, extent -3.875,-5.3 -3.625,-5.2
3D body: height 0.9, standoff 0.7, extent -3.875,-5.3 -3.625,-5
3D body: height 0.2, standoff 0, extent -3.875,-6 -3.625,-5.3
3D body: height 0.2, standoff 0, extent -3.375,-6 -3.125,-5.3
3D body: height 0.9, standoff 0.7, extent -3.375,-5.3 -3.125,-5
3D body: height 0.9, standoff 0, extent -3.375,-5.3 -3.125,-5.2
3D body: height 0.2, standoff 0, extent -2.875,-6 -2.625,-5.3
3D body: height 0.9, standoff 0.7, extent -2.875,-5.3 -2.625,-5
3D body: height 0.9, standoff 0, extent -2.875,-5.3 -2.625,-5.2
3D body: height 0.2, standoff 0, extent -2.375,-6 -2.125,-5.3
3D body: height 0.9, standoff 0.7, extent -2.375,-5.3 -2.125,-5
3D body: height 0.9, standoff 0, extent -2.375,-5.3 -2.125,-5.2
3D body: height 0.2, standoff 0, extent -1.875,-6 -1.625,-5.3
3D body: height 0.9, standoff 0.7, extent -1.875,-5.3 -1.625,-5
3D body: height 0.9, standoff 0, extent -1.875,-5.3 -1.625,-5.2
3D body: height 0.2, standoff 0, extent -1.375,-6 -1.125,-5.3
3D body: height 0.9, standoff 0.7, extent -1.375,-5.3 -1.125,-5
3D body: height 0.9, standoff 0, extent -1.375,-5.3 -1.125,-5.2
3D body: height 0.2, standoff 0, extent -0.875,-6 -0.625,-5.3
3D body: height 0.9, standoff 0.7, extent -0.875,-5.3 -0.625,-5
3D body: height 0.9, standoff 0, extent -0.875,-5.3 -0.625,-5.2
3D body: height 0.2, standoff 0, extent -0.375,-6 -0.125,-5.3
3D body: height 0.9, standoff 0.7, extent -0.375,-5.3 -0.125,-5
3D body: height 0.9, standoff 0, extent -0.375,-5.3 -0.125,-5.2
3D body: height 0.2, standoff 0, extent 0.125,-6 0.375,-5.3
3D body: height 0.9, standoff 0.7, extent 0.125,-5.3 0.375,-5
3D body: height 0.9, standoff 0, extent 0.125,-5.3 0.375,-5.2
3D body: height 0.2, standoff 0, extent 0.625,-6 0.875,-5.3
3D body: height 0.9, standoff 0.7, extent 0.625,-5.3 0.875,-5
3D body: height 0.9, standoff 0, extent 0.625,-5.3 0.875,-5.2
3D body: height 0.2, standoff 0, extent 1.125,-6 1.375,-5.3
3D body: height 0.9, standoff 0.7, extent 1.125,-5.3 1.375,-5
3D body: height 0.9, standoff 0, extent 1.125,-5.3 1.375,-5.2
3D body: height 0.2, standoff 0, extent 1.625,-6 1.875,-5.3
3D body: height 0.9, standoff 0.7, extent 1.625,-5.3 1.875,-5
3D body: height 0.9, standoff 0, extent 1.625,-5.3 1.875,-5.2